# Altium footprint library RCID.PcbLib: 104 footprints (part 3 of 7)
Each footprint in its own frame and in the unit in brackets; x right, y up, seen from the top. Pads: shape width x height; smd on the part's side, far side on the other; paste and mask are expansions set on the pad; w line width, h text height; cw(c..) or ccw(c..) is an arc to the next point about the centre after c.
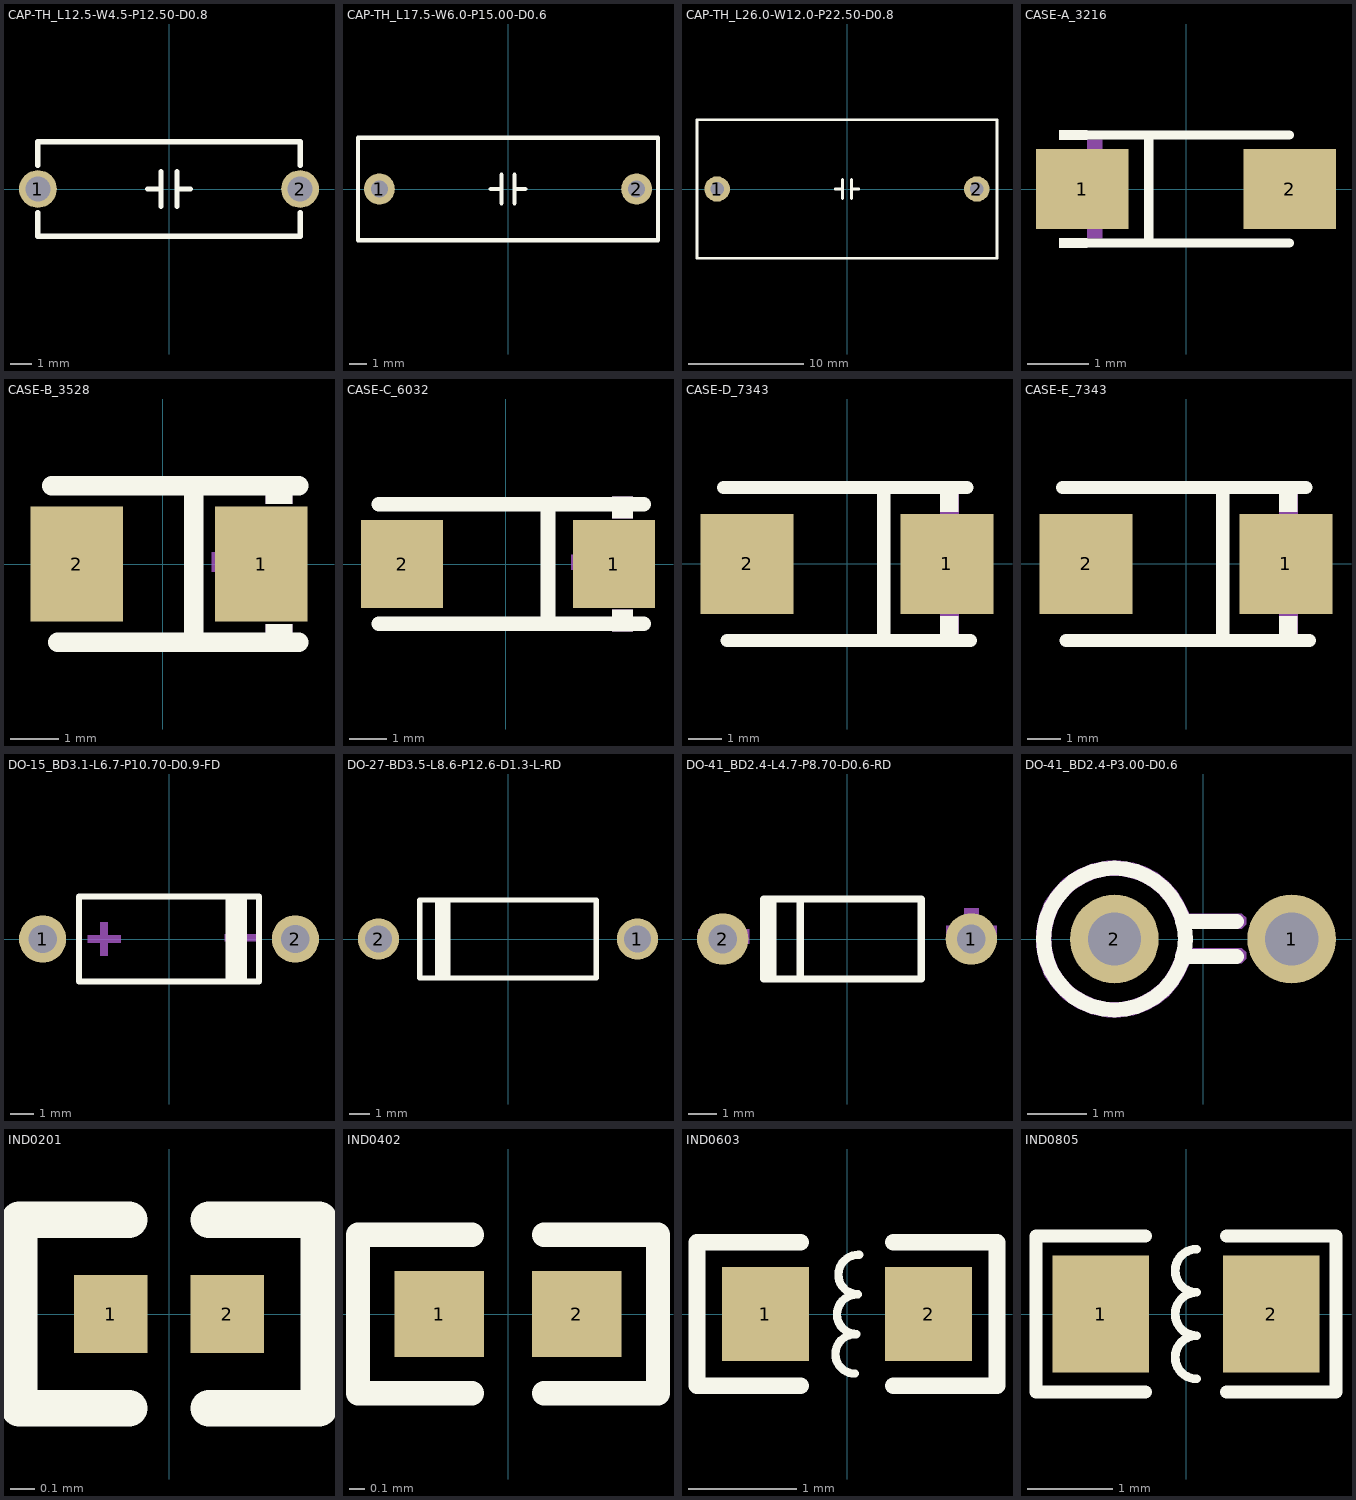
[diagram p2: the footprints below, top view; thin cyan lines are the x and y axes]

## CAP-TH_L12.5-W4.5-P12.50-D0.8 [mm]
pads (2):
  round 1.8 hole 1.2 paste-2539.97 mask+0.051: 1(-6.25,0) 2(6.25,0)
Top Overlay:
  lines w0.254: -6.25,-1.131 -6.25,-2.25 6.25,-2.25 6.25,-1.131 ; -6.25,1.131 -6.25,2.25 6.25,2.25 6.25,1.131 ; -1.016,0 -0.381,0 ; -0.381,-0.826 -0.381,0.826 ; 0.381,-0.826 0.381,0.826 ; 0.381,0 1.016,0

## CAP-TH_L17.5-W6.0-P15.00-D0.6 [mm]
pads (2):
  round 1.8 hole 1 paste-2539.97 mask+0.051: 1(-7.5,0) 2(7.5,0)
Top Overlay:
  lines w0.254: -1.016,0 -0.381,0 ; -0.381,-0.826 -0.381,0.826 ; 0.381,-0.826 0.381,0.826 ; 0.381,0 1.016,0 ; -8.75,-3 -8.75,3 8.75,3 8.75,-3 -8.75,-3

## CAP-TH_L26.0-W12.0-P22.50-D0.8 [mm]
pads (2):
  round 2.2 hole 1.2 paste-2539.97 mask+0.051: 1(-11.25,0) 2(11.25,0)
Top Overlay:
  lines w0.254: -1.016,0 -0.381,0 ; -0.381,-0.826 -0.381,0.826 ; 0.381,-0.826 0.381,0.826 ; 0.381,0 1.016,0 ; -13,-6 -13,6 13,6 13,-6 -13,-6

## CASE-A_3216 [mm]
pads (2):
  rect 1.5x1.296 smd paste+0 mask+0.051: 1(-1.686,0) 2(1.686,0)
Top Overlay:
  region: -1.6,0.952 -1.6,0.8 -2.057,0.8 -2.057,0.952
  region: -1.6,-0.952 -1.6,-0.8 -2.057,-0.8 -2.057,-0.952
  lines w0.152: -1.676,-0.876 1.676,-0.876 ; -1.676,0.876 1.676,0.876 ; -0.604,-0.876 -0.604,0.876
Mechanical 15:
  region: -1.6,-0.8 -1.6,-0.4 -1.36,-0.4 -1.36,-0.8
  region: -1.6,0.8 -1.6,0.4 -1.36,0.4 -1.36,0.8
  region: -1.3,0.4 -1.3,-0.4 -1.18,-0.4 -1.18,0.4
  region: -1.48,0.06 -1.48,-0.06 -1,-0.06 -1,0.06
  region: 1.48,0.06 1.48,-0.06 1,-0.06 1,0.06

## CASE-B_3528 [mm]
pads (2):
  rect 1.9x2.376 smd paste+0 mask+0.051: 1(2.026,0) 2(-1.772,0)
Top Overlay:
  region: 2.667,1.81 2.667,1.238 2.117,1.238 2.117,1.81
  region: 2.667,-1.81 2.667,-1.238 2.117,-1.238 2.117,-1.81
  lines w0.4: -2.286,1.61 2.794,1.61 ; -2.159,-1.61 2.794,-1.61 ; 0.635,-1.524 0.636,1.524
Mechanical 15:
  region: 2.667,1.81 2.667,1.238 2.117,1.238 2.117,1.81
  region: 2.667,-1.81 2.667,-1.238 2.117,-1.238 2.117,-1.81
  region: -2.628,0.254 -0.928,0.254 -0.928,-0.146 -2.628,-0.146
  region: 1.004,0.245 2.704,0.245 2.704,-0.155 1.004,-0.155
  region: 2.038,0.85 2.038,-0.85 1.638,-0.85 1.638,0.85

## CASE-C_6032 [mil]
pads (2):
  rect 86.91x93.54 smd paste+0 mask+2: 1(115,0) 2(-110,0)
Top Overlay:
  region: 135,-71.28 135,-48.72 113.35,-48.72 113.35,-71.28
  region: 135,71.28 135,48.72 113.35,48.72 113.35,71.28
  lines w15.75: -134.39,-63.41 146.28,-63.41 ; -134.39,63.41 146.28,63.41 ; 45,-60 45.03,60
Mechanical 15:
  region: 110.24,33.47 110.24,-33.47 94.49,-33.47 94.49,33.47
  region: 69.52,9.64 136.45,9.64 136.45,-6.1 69.52,-6.1
  region: -141.73,7.87 -74.8,7.87 -74.8,-7.87 -141.73,-7.87
  region: 135,-71.28 135,-48.72 113.35,-48.72 113.35,-71.28
  region: 135,71.28 135,48.72 113.35,48.72 113.35,71.28

## CASE-D_7343 [mm]
pads (2):
  rect 2.799x3.01 smd: 1(3,0) 2(-3,0)
Top Overlay:
  region: 3.348,-2.3 3.348,-1.565 2.798,-1.565 2.798,-2.285 2.813,-2.3 2.968,-2.3
  region: 2.798,2.3 2.798,1.565 3.348,1.565 3.348,2.285 3.333,2.3 3.178,2.3
  lines w0.4: -3.7,2.3 3.6,2.3 ; -3.6,-2.3 3.7,-2.3 ; 1.1,-2.3 1.101,2.3
Mechanical 15:
  region: 3.35,-2.15 3.35,-1.205 2.8,-1.205 2.8,-2.15
  region: 2.8,2.15 2.8,1.205 3.35,1.205 3.35,2.15
  region: 2.8,0.85 2.8,-0.85 2.4,-0.85 2.4,0.85
  region: 1.766,0.245 3.466,0.245 3.466,-0.155 1.766,-0.155
  region: -3.6,0.2 -1.9,0.2 -1.9,-0.2 -3.6,-0.2

## CASE-E_7343 [mm]
pads (2):
  rect 2.799x3.01 smd: 1(3,0) 2(-3,0)
Top Overlay:
  region: 3.348,-2.3 3.348,-1.565 2.798,-1.565 2.798,-2.285 2.813,-2.3 2.968,-2.3
  region: 2.798,2.3 2.798,1.565 3.348,1.565 3.348,2.285 3.333,2.3 3.178,2.3
  lines w0.4: -3.7,2.3 3.6,2.3 ; -3.6,-2.3 3.7,-2.3 ; 1.1,-2.3 1.101,2.3
Mechanical 15:
  region: 3.35,-2.15 3.35,-1.205 2.8,-1.205 2.8,-2.15
  region: 2.8,2.15 2.8,1.205 3.35,1.205 3.35,2.15
  region: 2.8,0.85 2.8,-0.85 2.4,-0.85 2.4,0.85
  region: 1.766,0.245 3.466,0.245 3.466,-0.155 1.766,-0.155
  region: -3.6,0.2 -1.9,0.2 -1.9,-0.2 -3.6,-0.2

## DO-15_BD3.1-L6.7-P10.70-D0.9-FD [mm]
pads (2):
  round 2 hole 1.2 paste-2539.97 mask+0.051: 1(-5.35,0) 2(5.35,0)
Top Overlay:
  lines w0.254: 2.524,-1.8 2.524,1.8 ; 2.75,-1.8 2.75,1.8 ; 2.95,-1.8 2.95,1.8 ; 3.168,-1.8 3.168,1.8 ; -3.8,-1.8 -3.8,1.8 3.8,1.8 3.8,-1.8 -3.8,-1.8
Mechanical 15:
  region: -3.45,0.15 -2.15,0.15 -2.05,0.15 -2.05,-0.15 -3.45,-0.15
  region: -2.9,-0.7 -2.9,0.6 -2.9,0.7 -2.6,0.7 -2.6,-0.7
  region: 2.35,0.2 3.65,0.2 3.75,0.2 3.75,-0.1 2.35,-0.1

## DO-27-BD3.5-L8.6-P12.6-D1.3-L-RD [mm]
pads (2):
  round 2 hole 1.3 paste-2539.97 mask+0.051: 1(6.3,0) 2(-6.3,0)
Top Overlay:
  lines w0.254: -3.429,-1.9 -3.429,1.9 ; -3.175,-1.9 -3.175,1.9 ; -2.921,-1.9 -2.921,1.9 ; -4.3,-1.9 -4.3,1.9 4.3,1.9 4.3,-1.9 -4.3,-1.9

## DO-41_BD2.4-L4.7-P8.70-D0.6-RD [mm]
pads (2):
  round 1.8 hole 1 paste-2539.97 mask+0.051: 1(4.35,0) 2(-4.35,0)
Top Overlay:
  lines w0.254: -2.667,-1.397 -2.921,-1.397 -2.921,1.4 -2.794,1.4 ; -2.6,-1.397 -2.794,-1.397 -2.794,1.4 ; -1.641,-1.4 -1.641,1.4 ; -2.794,1.4 -2.6,1.4 ; -2.6,1.4 2.6,1.4 2.6,-1.4 -2.6,-1.4 -2.6,1.4
Mechanical 15:
  region: -5.2,0.35 -3.422,0.35 -3.422,-0.158 -5.2,-0.158
  region: 4.1,-0.7 4.1,1.078 4.608,1.078 4.608,-0.7
  region: 3.47,0.467 5.248,0.467 5.248,-0.041 3.47,-0.041

## DO-41_BD2.4-P3.00-D0.6 [mm]
pads (2):
  round 1.5 hole 0.9 paste-2539.97 mask+0.05: 1(1.5,0) 2(-1.5,0)
Top Overlay:
  circle w0.254: c-1.5,0 r1.2
  lines w0.254: -0.35,-0.3 0.566,-0.3 ; -0.35,0.3 0.566,0.3
Mechanical 15:
  region: -0.333,-0.153 0.6,-0.153 0.653,-0.153 0.727,-0.227 0.727,-0.333 0.653,-0.407 0.6,-0.407 -0.333,-0.407 -0.386,-0.407 -0.46,-0.333 -0.46,-0.227 -0.386,-0.153
  region: -1.5,-1.327 -1.631,-1.327 -1.887,-1.276 -2.129,-1.176 -2.346,-1.031 -2.531,-0.846 -2.676,-0.629 -2.776,-0.387 -2.827,-0.131 -2.827,0 -2.827,0.131 -2.776,0.387 -2.676,0.629 -2.531,0.846 -2.346,1.031 -2.129,1.176 -1.887,1.276 -1.631,1.327 -1.5,1.327 -1.391,1.327 -1.175,1.291 -0.968,1.221 -0.775,1.117 -0.602,0.983 -0.453,0.823 -0.333,0.641 -0.244,0.441 -0.216,0.335 -0.215,0.331 -0.213,0.323 -0.212,0.315 -0.212,0.306 -0.212,0.302 -0.212,0.277 -0.231,0.23 -0.267,0.194 -0.313,0.175 -0.339,0.175 -0.36,0.175 -0.4,0.189 -0.433,0.215 -0.457,0.25 -0.462,0.271 -0.487,0.355 -0.559,0.516 -0.656,0.663 -0.776,0.792 -0.916,0.9 -1.071,0.984 -1.238,1.041 -1.412,1.069 -1.5,1.073 -1.605,1.068 -1.811,1.027 -2.006,0.946 -2.181,0.829 -2.329,0.681 -2.446,0.506 -2.527,0.311 -2.568,0.105 -2.573,0 -2.568,-0.105 -2.527,-0.311 -2.446,-0.506 -2.329,-0.681 -2.181,-0.829 -2.006,-0.946 -1.811,-1.027 -1.605,-1.068 -1.5,-1.073 -1.411,-1.069 -1.234,-1.04 -1.065,-0.981 -0.908,-0.895 -0.768,-0.784 -0.648,-0.652 -0.551,-0.501 -0.481,-0.336 -0.457,-0.25 -0.452,-0.23 -0.429,-0.194 -0.395,-0.167 -0.355,-0.153 -0.333,-0.153 -0.308,-0.153 -0.261,-0.172 -0.225,-0.208 -0.206,-0.255 -0.206,-0.28 -0.206,-0.284 -0.207,-0.291 -0.207,-0.299 -0.209,-0.306 -0.21,-0.31 -0.236,-0.418 -0.323,-0.622 -0.442,-0.809 -0.591,-0.973 -0.766,-1.111 -0.96,-1.217 -1.17,-1.29 -1.389,-1.327
  region: -0.339,0.43 0.6,0.43 0.653,0.43 0.727,0.355 0.727,0.25 0.653,0.176 0.6,0.176 -0.339,0.176 -0.391,0.176 -0.466,0.25 -0.466,0.355 -0.391,0.43

## IND0201 [mm]
pads (2):
  rect 0.303x0.324 smd paste-100 mask+0.051: 1(-0.242,0) 2(0.242,0)
Top Overlay:
  lines w0.152: -0.166,-0.391 -0.622,-0.391 -0.622,0.391 -0.166,0.391 ; 0.166,-0.391 0.622,-0.391 0.622,0.391 0.166,0.391
Top Paste:
  region: -0.081,-0.138 -0.081,0.138 -0.105,0.162 -0.369,0.162 -0.393,0.138 -0.393,-0.138 -0.369,-0.162 -0.105,-0.162
  region: 0.081,-0.138 0.081,0.138 0.105,0.162 0.369,0.162 0.393,0.138 0.393,-0.138 0.369,-0.162 0.105,-0.162

## IND0402 [mm]
pads (2):
  rect 0.566x0.54 smd paste-100 mask+0.051: 1(-0.433,0) 2(0.433,0)
Top Overlay:
  lines w0.152: -0.226,-0.499 -0.944,-0.499 -0.944,0.499 -0.226,0.499 ; 0.226,-0.499 0.944,-0.499 0.944,0.499 0.226,0.499
Top Paste:
  region: -0.135,-0.23 -0.135,0.23 -0.175,0.27 -0.676,0.27 -0.716,0.23 -0.716,-0.23 -0.676,-0.27 -0.175,-0.27
  region: 0.135,-0.23 0.135,0.23 0.175,0.27 0.676,0.27 0.716,0.23 0.716,-0.23 0.676,-0.27 0.175,-0.27

## IND0603 [mm]
pads (2):
  rect 0.806x0.864 smd paste-100 mask+0.051: 1(-0.753,0) 2(0.753,0)
Top Overlay:
  lines w0.076: 0.073,-0.551 cw(c0.073,-0.37) -0.107,-0.37 cw(c0.077,-0.37) 0.077,-0.186 0.086,-0.186 ; 0.088,-0.185 cw(c0.088,-0.005) -0.092,-0.005 cw(c0.092,-0.005) 0.092,0.179 0.1,0.179 ; 0.101,0.183 cw(c0.101,0.363) -0.079,0.363 cw(c0.105,0.363) 0.105,0.547 0.113,0.547
  lines w0.152: -0.426,-0.661 -1.385,-0.661 -1.385,0.661 -0.426,0.661 ; 0.426,-0.661 1.385,-0.661 1.385,0.661 0.426,0.661
Top Paste:
  region: 1.195,0.45 0.395,0.45 0.345,0.4 0.345,0.172 0.715,0.172 0.715,-0.158 0.345,-0.158 0.345,-0.4 0.395,-0.45 1.195,-0.45 1.245,-0.4 1.245,0.4
  region: -0.355,0.4 -0.355,0.172 -0.735,0.172 -0.735,-0.158 -0.355,-0.158 -0.355,-0.4 -0.405,-0.45 -1.195,-0.45 -1.245,-0.4 -1.245,0.4 -1.195,0.45 -0.405,0.45

## IND0805 [mm]
pads (2):
  rect 1.133x1.377 smd paste-100 mask+0.051: 1(-1,0) 2(1,0)
Top Overlay:
  lines w0.102: 0.127,-0.762 cw(c0.127,-0.508) -0.127,-0.508 cw(c0.127,-0.508) 0.127,-0.254 cw(c0.127,0) -0.127,0 cw(c0.127,0) 0.127,0.254 cw(c0.127,0.508) -0.127,0.508 cw(c0.127,0.508) 0.127,0.762
  lines w0.152: -0.476,-0.917 -1.761,-0.917 -1.761,0.917 -0.476,0.917 ; 0.476,-0.917 1.761,-0.917 1.761,0.917 0.476,0.917
Top Paste:
  region: 0.45,-0.64 0.45,-0.22 0.895,-0.22 0.895,0.23 0.455,0.23 0.45,0.64 0.5,0.69 1.65,0.69 1.7,0.64 1.7,-0.64 1.65,-0.69 0.5,-0.69
  region: -1.7,-0.64 -1.7,0.64 -1.65,0.69 -0.5,0.69 -0.45,0.64 -0.445,0.23 -0.895,0.23 -0.895,-0.22 -0.455,-0.22 -0.45,-0.64 -0.5,-0.69 -1.65,-0.69